# EAGLE library part TIWI-BLE (library C3-Modules)
LS Research TiWi-BLE Module WIFI and BlueTooth 4.0 LE HCI Module with single U.FL antenna and SDIO(WIFI) & UART (HCI) host interfaces
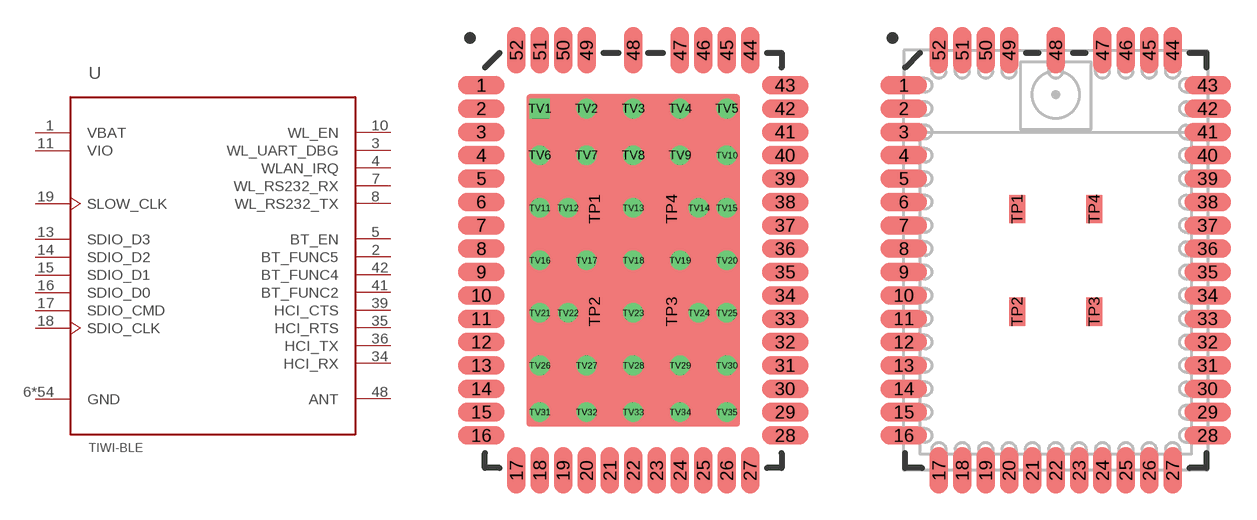
[diagram p5: symbol with the pads of TIWI-BLE-2L; footprints TIWI-BLE-2L, TIWI-BLE-4L]

Designator prefix U

## TIWI-BLE2L  [TIWI-BLE-2L]
1  VBAT  pwr
2  BT_FUNC5  out
3  WL_UART_DBG
4  WLAN_IRQ  out
5  BT_EN  in
6  GND  pwr
7  WL_RS232_RX  in
8  WL_RS232_TX  out
10  WL_EN  in
11  VIO  pwr
12  GND  pwr
13  SDIO_D3
14  SDIO_D2
15  SDIO_D1
16  SDIO_D0
17  SDIO_CMD
18  SDIO_CLK  in
19  SLOW_CLK  in
24  GND  pwr
26  GND  pwr
27  GND  pwr
29  GND  pwr
30  GND  pwr
34  HCI_RX  in
35  HCI_RTS  out
36  HCI_TX  out
39  HCI_CTS  in
41  BT_FUNC2  out
42  BT_FUNC4  out
44  GND  pwr
45  GND  pwr
46  GND  pwr
47  GND  pwr
48  ANT  pas
49  GND  pwr
50  GND  pwr
51  GND  pwr
52  GND  pwr
TP1  GND  pwr
TP2  GND  pwr
TP3  GND  pwr
TP4  GND  pwr
TV1  GND  pwr
TV2  GND  pwr
TV3  GND  pwr
TV4  GND  pwr
TV5  GND  pwr
TV6  GND  pwr
TV7  GND  pwr
TV8  GND  pwr
TV9  GND  pwr
TV10  GND  pwr
TV11  GND  pwr
TV12  GND  pwr
TV13  GND  pwr
TV14  GND  pwr
TV15  GND  pwr
TV16  GND  pwr
TV17  GND  pwr
TV18  GND  pwr
TV19  GND  pwr
TV20  GND  pwr
TV21  GND  pwr
TV22  GND  pwr
TV23  GND  pwr
TV24  GND  pwr
TV25  GND  pwr
TV26  GND  pwr
TV27  GND  pwr
TV28  GND  pwr
TV29  GND  pwr
TV30  GND  pwr
TV31  GND  pwr
TV32  GND  pwr
TV33  GND  pwr
TV34  GND  pwr
TV35  GND  pwr

## TIWI-BLE4L  [TIWI-BLE-4L]
1  VBAT  pwr
2  BT_FUNC5  out
3  WL_UART_DBG
4  WLAN_IRQ  out
5  BT_EN  in
6  GND  pwr
7  WL_RS232_RX  in
8  WL_RS232_TX  out
10  WL_EN  in
11  VIO  pwr
12  GND  pwr
13  SDIO_D3
14  SDIO_D2
15  SDIO_D1
16  SDIO_D0
17  SDIO_CMD
18  SDIO_CLK  in
19  SLOW_CLK  in
24  GND  pwr
26  GND  pwr
27  GND  pwr
29  GND  pwr
30  GND  pwr
34  HCI_RX  in
35  HCI_RTS  out
36  HCI_TX  out
39  HCI_CTS  in
41  BT_FUNC2  out
42  BT_FUNC4  out
44  GND  pwr
45  GND  pwr
46  GND  pwr
47  GND  pwr
48  ANT  pas
49  GND  pwr
50  GND  pwr
51  GND  pwr
52  GND  pwr
TP1  GND  pwr
TP2  GND  pwr
TP3  GND  pwr
TP4  GND  pwr

## Footprint TIWI-BLE-2L (pad centres in mm)
LSR TiWi-BLE WIFI BLE Module - 2 Layer Stack
smd 2 x 0.8: 1 -6.5,7.5; 2 -6.5,6.5; 3 -6.5,5.5; 4 -6.5,4.5; 5 -6.5,3.5; 6 -6.5,2.5; 7 -6.5,1.5; 8 -6.5,0.5; 9 -6.5,-0.5; 10 -6.5,-1.5; 11 -6.5,-2.5; 12 -6.5,-3.5; 13 -6.5,-4.5; 14 -6.5,-5.5; 15 -6.5,-6.5; 16 -6.5,-7.5; 28 6.5,-7.5; 29 6.5,-6.5; 30 6.5,-5.5; 31 6.5,-4.5; 32 6.5,-3.5; 33 6.5,-2.5; 34 6.5,-1.5; 35 6.5,-0.5; 36 6.5,0.5; 37 6.5,1.5; 38 6.5,2.5; 39 6.5,3.5; 40 6.5,4.5; 41 6.5,5.5; 42 6.5,6.5; 43 6.5,7.5
smd 0.8 x 2: 17 -5,-9; 18 -4,-9; 19 -3,-9; 20 -2,-9; 21 -1,-9; 22 0,-9; 23 1,-9; 24 2,-9; 25 3,-9; 26 4,-9; 27 5,-9; 44 5,9; 45 4,9; 46 3,9; 47 2,9; 48 0,9; 49 -2,9; 50 -3,9; 51 -4,9; 52 -5,9
smd 0.7 x 1.2: TP1 -1.65,2.2; TP2 -1.65,-2.2; TP3 1.65,-2.2; TP4 1.65,2.2
drill 0.33 pad 0.66 square: TV1 -4,6.5
drill 0.33 pad 0.406: TV2 -2,6.5; TV3 0,6.5; TV4 2,6.5; TV5 4,6.5; TV6 -4,4.5; TV7 -2,4.5; TV8 0,4.5; TV9 2,4.5; TV10 4,4.5; TV11 -4,2.25; TV12 -2.8,2.25; TV13 0,2.25; TV14 2.8,2.25; TV15 4,2.25; TV16 -4,0; TV17 -2,0; TV18 0,0; TV19 2,0; TV20 4,0; TV21 -4,-2.25; TV22 -2.8,-2.25; TV23 0,-2.25; TV24 2.8,-2.25; TV25 4,-2.25; TV26 -4,-4.5; TV27 -2,-4.5; TV28 0,-4.5; TV29 2,-4.5; TV30 4,-4.5; TV31 -4,-6.5; TV32 -2,-6.5; TV33 0,-6.5; TV34 2,-6.5; TV35 4,-6.5

## Footprint TIWI-BLE-4L (pad centres in mm)
smd 2 x 0.8: 1 -6.5,7.5; 2 -6.5,6.5; 3 -6.5,5.5; 4 -6.5,4.5; 5 -6.5,3.5; 6 -6.5,2.5; 7 -6.5,1.5; 8 -6.5,0.5; 9 -6.5,-0.5; 10 -6.5,-1.5; 11 -6.5,-2.5; 12 -6.5,-3.5; 13 -6.5,-4.5; 14 -6.5,-5.5; 15 -6.5,-6.5; 16 -6.5,-7.5; 28 6.5,-7.5; 29 6.5,-6.5; 30 6.5,-5.5; 31 6.5,-4.5; 32 6.5,-3.5; 33 6.5,-2.5; 34 6.5,-1.5; 35 6.5,-0.5; 36 6.5,0.5; 37 6.5,1.5; 38 6.5,2.5; 39 6.5,3.5; 40 6.5,4.5; 41 6.5,5.5; 42 6.5,6.5; 43 6.5,7.5
smd 0.8 x 2: 17 -5,-9; 18 -4,-9; 19 -3,-9; 20 -2,-9; 21 -1,-9; 22 0,-9; 23 1,-9; 24 2,-9; 25 3,-9; 26 4,-9; 27 5,-9; 44 5,9; 45 4,9; 46 3,9; 47 2,9; 48 0,9; 49 -2,9; 50 -3,9; 51 -4,9; 52 -5,9
smd 0.7 x 1.2: TP1 -1.65,2.2; TP2 -1.65,-2.2; TP3 1.65,-2.2; TP4 1.65,2.2